# Altium footprint library PcbLib-DC-LINK.PcbLib: 11 footprints
Each footprint in its own frame and in the unit in brackets; x right, y up, seen from the top. Pads: shape width x height; smd on the part's side, far side on the other; paste and mask are expansions set on the pad; w line width, h text height; cw(c..) or ccw(c..) is an arc to the next point about the centre after c.
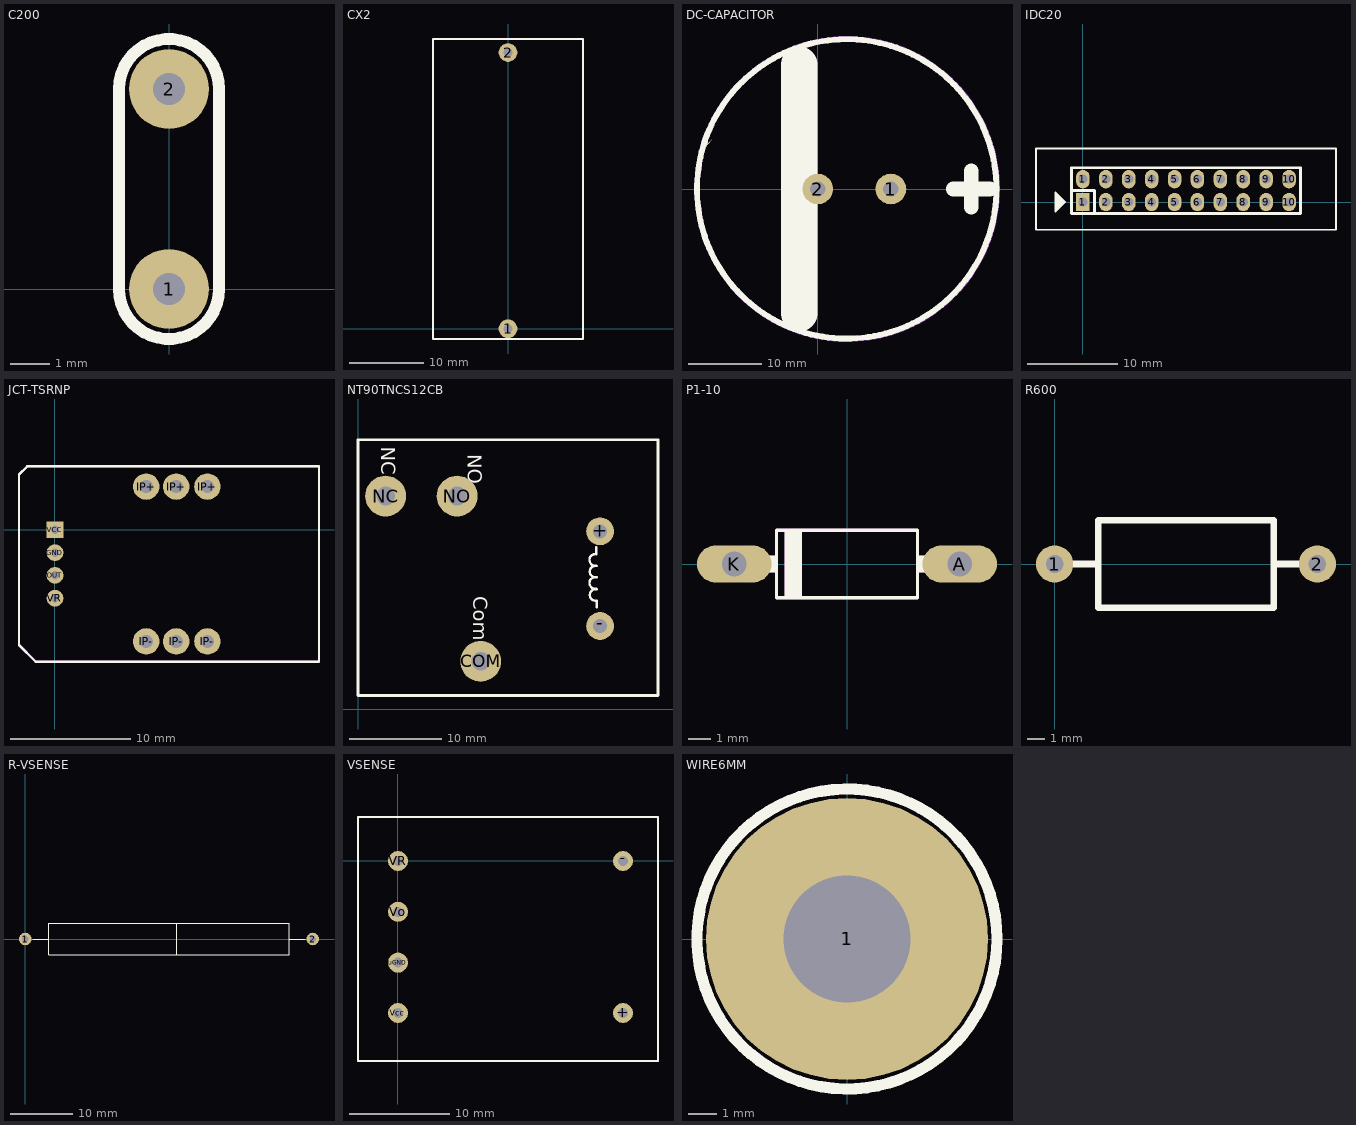
[diagram p0: the footprints below, top view; thin cyan lines are the x and y axes]

## C200 [mil]
pads (2):
  round 80 hole 32: 1(0,0) 2(0,200)
Top Overlay:
  lines w12: -50,0 ccw(c0,0) 50,0 50,200 ccw(c0,200) -50,200 -50,0
3D body "CAP_DISC_4x3_YL.stp": height 176.01, standoff -118.11, extent -65.11,-5.27 53,209.27

## CX2 [mm]
pads (2):
  round 2.5 hole 1.2: 1(0,0) 2(0,37)
Top Overlay:
  lines w0.305: -10.033,-1.372 -10.033,38.811 10.033,38.811 10.033,-1.372 -10.033,-1.372
3D body "CAP_BOX_13x6x14_BL.stp": height 14, standoff -2.5, extent -2.974,-1.521 3.025,11.479

## DC-CAPACITOR [mm]
pads (2):
  round 4.2 hole 2.1: 1(10,0) 2(0,0)
Top Overlay:
  circle w0.8: c3.96,0.008 r20.46
  region: -14.5,6.75 -15.25,6 -15.25,5.75 -16,5
  lines w2: 18.5,0 23.5,0 ; 21,-2.5 21,2.5
  lines w5: -2.5,-17 -2.5,-7.25 -2.5,7.25 -2.5,17
Mechanical 16:
  circle w0.8: c4,0 r20.5
  lines w0.2: 20.492,0 21.508,0 ; 21,-0.508 21,0.508
Mechanical 29:
  text "'.Designator''" at -4.699,-19.812 h0.7

## IDC20 [mil]
pads (20):
  rect 59.06x80 hole 40: 1(0,0)
  oval 59.06x80 hole 40: 1(0,100) 2(100,0) 2(100,100) 3(200,0) 3(200,100) 4(300,0) 4(300,100) 5(400,0) 5(400,100) 6(500,0) 6(500,100) 7(600,0) 7(600,100) 8(700,0) 8(700,100) 9(800,0) 9(800,100) 10(900,0) 10(900,100)
Top Overlay:
  lines w7.87: -205,-121 -205,234 1104,234 1105,235 1105,-121 -205,-121
  lines w10: -110,-25 -110,25 ; -100,-15 -100,15 ; -90,-5 -90,5 ; -120,-40 -120,40 -80,0 -120,-40
  lines w12: -50,50 50,50 50,-50 ; -50,-50 -50,150 950,150 950,-50 -50,-50
3D body "DS1013-20SSiB.stp": height 366.14, standoff -122.05, extent -205.5,-123.22 1105.52,235.05

## JCT-TSRNP [mm]
pads (10):
  round 1.4 hole 0.7: GND(0,-1.9) OUT(0,-3.8) VR(0,-5.7)
  round 2.2 hole 1.1: IP+(7.6,3.6) IP+(10.1,3.6) IP+(12.7,3.6) IP-(7.6,-9.3) IP-(10.1,-9.3) IP-(12.7,-9.3)
  rect 1.4x1.4 hole 0.7: VCC(0,0)
Top Overlay:
  lines w0.2: -3,-9.6 -3,4.6 -2.3,5.3 22,5.3 22,-11 -1.6,-11 -3,-9.6
Mechanical 16:
  lines w0.2: -3,-9.6 -1.7,-10.9 -1.6,-11 21.9,-11 22,-10.9 22,5.3 -2.3,5.3 -3,4.6 -3,-9.025 -3,-9.6
Mechanical 29:
  text "'.Designator''" at 5.2,-13.1 h0.7

## NT90TNCS12CB [mm]
pads (5):
  round 3 hole 1.5: +(26.07,19.151) -(26.07,8.951)
  round 4.4 hole 2: COM(13.21,5.151) NC(2.97,22.951) NO(10.67,22.951)
Top Overlay:
  lines w0.254: 25.664,16.817 25.664,17.467 ; 25.669,14.192 ccw(c25.544,13.577) 25.681,12.965 ; 25.669,16.692 ccw(c25.544,16.077) 25.681,15.465 ; 25.709,12.912 ccw(c25.584,12.297) 25.721,11.685 25.721,10.947 ; 25.709,15.422 ccw(c25.584,14.807) 25.721,14.195
  lines w0.305: 0,1.488 0,29 32.299,29 32.299,1.488 0,1.488
  text "NO" at 11.81,27.451 h1.52
  text "NC" at 2.51,28.251 h1.52
  text "Com" at 12.41,12.151 h1.52

## P1-10 [mil]
pads (2):
  oval 132x66 hole 44: A(200,0) K(-200,0)
Top Overlay:
  region: -80,-60.07 -110.14,-60.07 -110.14,60 -80,60
  region: -125,-15.02 -155.17,-15.02 -155.17,15 -125,15
  region: 155,-15.01 125.09,-15.01 125.09,15 155,15
  lines w6: -125,-60 125,-60 125,60 -125,60 -125,-60
Mechanical 13:
  lines w30: -200,0 -160,0 ; 160,0 200,0
Mechanical 29:
  region: 155,-15.01 125.09,-15.01 125.09,15 155,15
  region: -125,-15.02 -155.17,-15.02 -155.17,15 -125,15
  region: -80,-60.07 -110.14,-60.07 -110.14,60 -80,60
  lines w6: -125,-60 -125,60 125,60 125,-60 -125,-60
  text "'.Designator''" at -165.35,-106.3 h27.56

## R600 [mil]
pads (2):
  round 85 hole 40: 1(0,0) 2(600,0)
Top Overlay:
  lines w15: 0,0 100,0 ; 500,0 600,0 ; 100,-100 500,-100 500,100 100,100 100,-100
3D body "RES-1W-H-MO.stp": height 279.53, standoff -19.68, extent -40.62,-98.33 640.76,98.34

## R-VSENSE [mm]
pads (2):
  round 2 hole 1: 1(0,0) 2(46,0)
Top Overlay:
  lines w0.2: 1.2,0 3.775,0 ; 24.258,-2.5 24.258,2.5 ; 42.225,0 44.8,0 ; 3.775,0 3.775,-2.5 42.225,-2.5 42.225,2.5 3.775,2.5 3.775,0

## VSENSE [mm]
pads (6):
  round 2 hole 1: +(22.5,-15.2) -(22.5,0) uGND(0,-10.16) Vcc(0,-15.2) Vo(0,-5.08) VR(0,0)
Top Overlay:
  lines w0.2: -4,-20 26,-20 26,4.4 14.38,4.4 8.3,4.4 -4,4.4 -4,-20
Mechanical 16:
  lines w0.2: -4,-20 -4,4.4 8.3,4.4 14.38,4.4 26,4.4 26,-20 -4,-20
Mechanical 29:
  text "'.Designator''" at -2.4,-22.9 h0.7

## WIRE6MM [mm]
pads (1):
  round 10 hole 4.5: 1(0,0)
Top Overlay:
  circle w0.4: c0,0 r5.318